# Altium schematic symbol library QUTMS_LEDLibrary.SchLib: 12 symbols
Pins are listed as number, name and electrical type; pins without a type are passive.

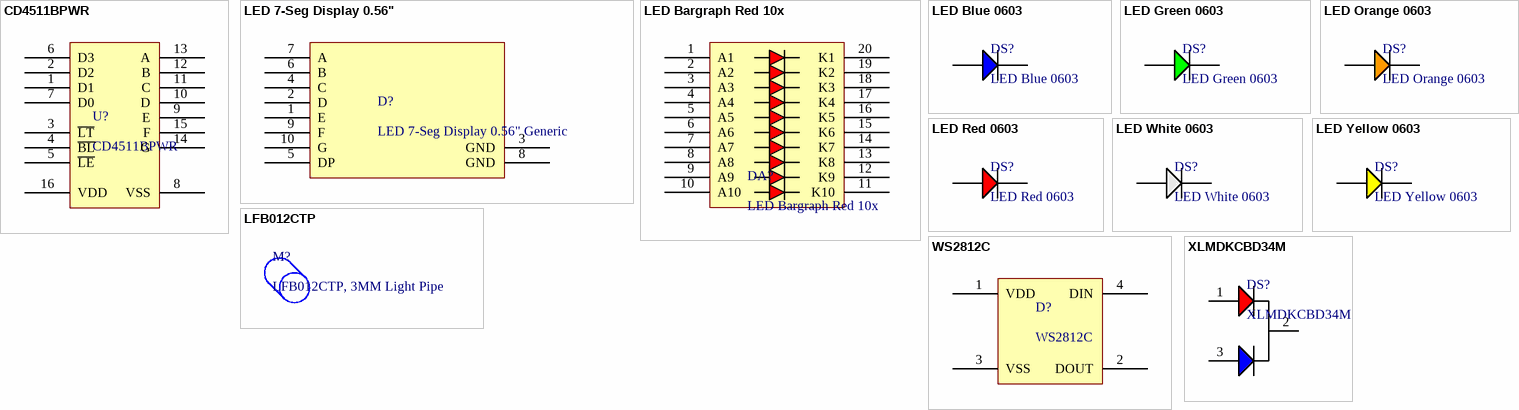
[diagram p0: symbols CD4511BPWR to XLMDKCBD34M]

## CD4511BPWR
designator U?
LED Driver 7 Segment 16-TSSOP
footprint 16-TSSOP
pins: 1 D1, 2 D2, 3 ~{LT}, 4 ~{BL}, 5 ~{LE}, 6 D3, 7 D0, 8 VSS, 9 E, 10 D, 11 C, 12 B, 13 A, 14 G, 15 F, 16 VDD

## LED 7-Seg Display 0.56"
designator D?, comment LED 7-Seg Display 0.56" Generic
footprint LED 7 SEG 0.56"
pins: 1 E, 2 D, 3 GND, 4 C, 5 DP, 6 B, 7 A, 8 GND, 9 F, 10 G

## LED Bargraph Red 10x
designator DA?
footprint LED DIP RED 10
pins: 1 A1, 2 A2, 3 A3, 4 A4, 5 A5, 6 A6, 7 A7, 8 A8, 9 A9, 10 A10, 11 K10, 12 K9, 13 K8, 14 K7, 15 K6, 16 K5, 17 K4, 18 K3, 19 K2, 20 K1

## LED Blue 0603
designator DS?
footprint LED BLUE 0603
pins: 1 A, 2 C

## LED Green 0603
designator DS?
footprint LED GREEN 0603
pins: 1 A, 2 C

## LED Orange 0603
designator DS?
footprint LED ORANGE 0603
pins: 1 A, 2 C

## LED Red 0603
designator DS?
footprint LED RED 0603
pins: 1 A, 2 C

## LED White 0603
designator DS?
footprint LED WHITE 0603
pins: 1 A, 2 C

## LED Yellow 0603
designator DS?
footprint LED YELLOW 0603
pins: 1 A, 2 C

## LFB012CTP
designator M?, comment LFB012CTP, 3MM Light Pipe
3MM Light Pipe, Light Pipe Single Clear, Diffused Rigid Panel Mount, Press Fit, Front; ComponentLink1Description: Digikey; ComponentLink1URL: https://www.digikey.com.au/product-detail/en/visual-communications-company-vcc/LFB012CTP/LFB012CTP-ND/5723588

## WS2812C
designator D?
RGB 620~625nmRed,515~525nmGreen,465~475nmBlue SMD,5x5mm Light Emitting Diodes (LED) RoHS
footprint WS2812C
pins: 1 VDD, 2 DOUT, 3 VSS, 4 DIN

## XLMDKCBD34M
designator DS?
Blue, Red 465nm Blue, 630nm Red LED Indication - Discrete 3.3V Blue, 1.95V Red Radial; ComponentLink1Description: Digikey; ComponentLink1URL: https://www.digikey.com.au/product-detail/en/sunled/XLMDKCBD34M/1497-1307-ND/4901632
footprint XLxxxx34x
pins: 1 A, 2 C, 3 A